# Altium schematic symbol library PM_Drive_UI.SCHLIB: 24 symbols
Pins are listed as number, name and electrical type; pins without a type are passive.

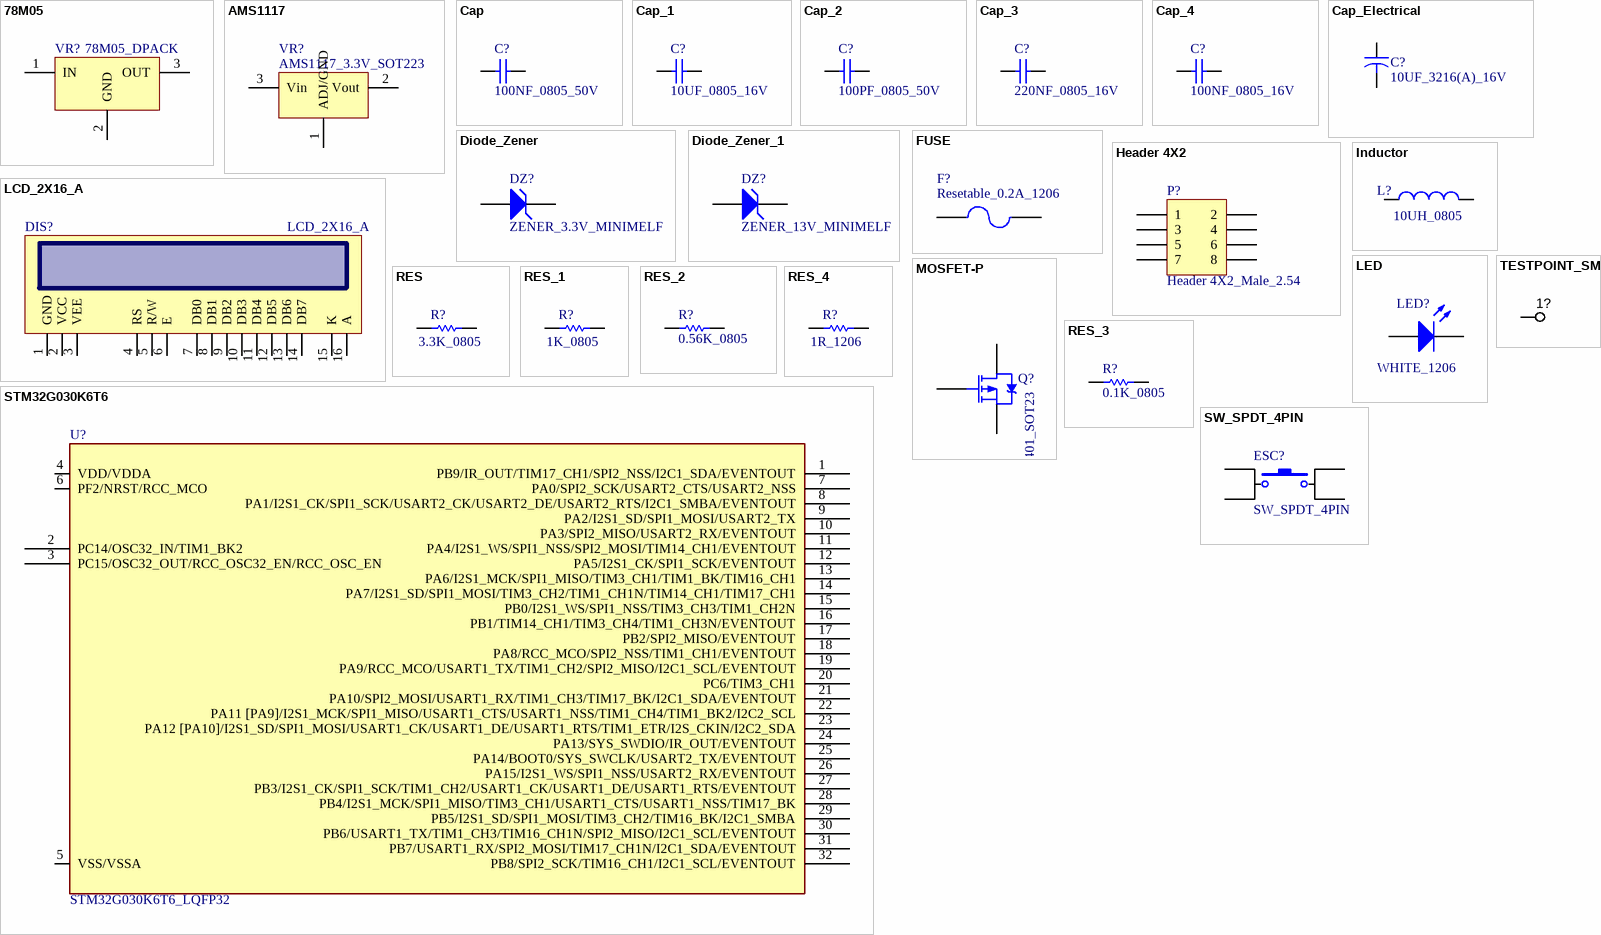
[diagram p0: symbols 78M05 to TESTPOINT_SMD]

## 78M05
designator VR?, comment 78M05_DPACK
footprint DPAK
pins: 1 IN, 2 GND, 3 OUT

## AMS1117
designator VR?, comment AMS1117_3.3V_SOT223
footprint SOT223
pins: 1 ADJ/GND, 2 Vout, 3 Vin

## Cap
designator C?, comment 100NF_0805_50V
Value: 100nF; Component ID: 000401
footprint Cap_0805_Nominal_BIG MARK
footprint Cap_805
footprint Cap_0805_Nominal
footprint Cap_0603_Nominal
pins: 1, 2

## Cap_1
designator C?, comment 10UF_0805_16V
Value: 100nF; Component ID: 000401
footprint Cap_0805_Nominal_BIG MARK
footprint Cap_805
footprint Cap_0805_Nominal
footprint Cap_0603_Nominal
pins: 1, 2

## Cap_2
designator C?, comment 100PF_0805_50V
Value: 100nF; Component ID: 000401
footprint Cap_0805_Nominal_BIG MARK
footprint Cap_805
footprint Cap_0805_Nominal
footprint Cap_0603_Nominal
pins: 1, 2

## Cap_3
designator C?, comment 220NF_0805_16V
Value: 100nF; Component ID: 000401
footprint Cap_0805_Nominal_BIG MARK
footprint Cap_805
footprint Cap_0805_Nominal
footprint Cap_0603_Nominal
pins: 1, 2

## Cap_4
designator C?, comment 100NF_0805_16V
Value: 100nF; Component ID: 000401
footprint Cap_0805_Nominal_BIG MARK
footprint Cap_805
footprint Cap_0805_Nominal
footprint Cap_0603_Nominal
pins: 1, 2

## Cap_Electrical
designator C?, comment 10UF_3216(A)_16V
value: 100UF_25V_5*5.8
footprint CAP_SMD_B
footprint CAP_SMD_D
footprint CAP_SMD_E
footprint Cap_SMD_G
footprint Cap_Tantal(6032)_C
footprint Cap_Tantal(7343)_D
footprint Cap_5mm
footprint Cap_6.3mm
footprint Cap_8mm
footprint Cap_10mm
footprint Cap_12.5mm
footprint Cap_16mm
footprint Cap_18mm
footprint Cap_13mm
footprint Cap_Tantal(3216)_A
footprint CAP_EL_SMD_5 (Electrolytic Cap, D: 5.0mm, L: 5.8mm, Size C)
footprint CAP_EL_SMD_6X8 (Electrolytic Cap, D: 6.3mm L: 7.7mm, Size D)
footprint CAP_EL_SMD_8 (Electrolytic Cap, Size E, Size F, 8.3X10)
footprint CAP_EL_SMD_10X10 (Electrolytic Cap, 10.3mm, L: 10mm)
footprint Cap_Tantal(3216)_A
footprint Cap_Tantal(6032)_C
pins: 1, 2

## Diode_Zener
designator DZ?, comment ZENER_3.3V_MINIMELF
footprint Diode_ZENER_MINIMELF
footprint Diode_SOD323
pins: 1 A, 2 K

## Diode_Zener_1
designator DZ?, comment ZENER_13V_MINIMELF
footprint Diode_ZENER_MINIMELF
footprint Diode_SOD323
pins: 1 A, 2 K

## FUSE
designator F?, comment Resetable_0.2A_1206
footprint FUSE_1206
footprint FUSE_HOLDER_2_20x5mm
footprint FUSE_HOLDER_3_20x5mm
footprint FUSE_HOLDER_4_20x5mm
footprint 0154Series_LTF
pins: 1, 2

## Header 4X2
designator P?, comment Header 4X2_Male_2.54
Header, 6-Pin, Dual row; LatestRevisionDate: 17-Jul-2002; LatestRevisionNote: Re-released for DXP Platform.; Publisher: Altium Limited
footprint HDR_M_2X4_2.54MM (Male Header 2X04 with 2.54 mm Pitch)
pins: 1, 2, 3, 4, 5, 6, 7, 8

## Inductor
designator L?, comment 10UH_0805
Component ID: 003143
footprint 1206
footprint Inductor_805
footprint INDUCTOR_1206_NOMINAL
footprint INDUCTOR_0805_Nominal
pins: 1, 2

## LCD_2X16_A
designator DIS?
footprint Con_LCD
footprint LCD_2X16_A
footprint LCD_2X16_A2
pins: 1 GND, 2 VCC, 3 VEE, 4 RS, 5 R/W, 6 E, 7 DB0, 8 DB1, 9 DB2, 10 DB3, 11 DB4, 12 DB5, 13 DB6, 14 DB7, 15 K, 16 A

## LED
designator LED?, comment WHITE_1206
Component ID: 000517
footprint LED_3mm
footprint LED_3mm_2
footprint LED_5MM
footprint LED_0805
footprint LED_0603_NOMINAL_BLUE
footprint LED_0603_NOMINAL_GREEN
footprint LED_0603_NOMINAL_RED
footprint LED_0603_NOMINAL_YELLOW
footprint LED_1206_NOMINAL
footprint LED_1206_NOMINAL_BIG MARK
footprint LED_0805_NOMINAL
pins: 1 A, 2 K

## MOSFET-P
designator Q?, comment AO3401_SOT23
P-Channel MOSFET; Published: 8-Jun-2000; LatestRevisionDate: 17-Jul-2002; LatestRevisionNote: Re-released for DXP Platform.; PackageVersion: 1995/1996; PackageReference: E3; Publisher: Altium Limited; PackageDescription: TO, Flat Index; 3 In-Line, Axial Leads; Body Dia. 4.6mm; Lead Dia. 0.5 mm (max)
footprint SOT23_MOSFET
pins: 1 G, 2 S, 3 D

## RES
designator R?, comment 3.3K_0805
Value: 10K_0603; Component ID: 000091
footprint RES_1/4W_BIG
footprint RES_1/4W_SMALL
footprint Res_Stood
footprint 0603_amir
footprint 0805
footprint 1206
footprint RES_1W_SMALL
footprint 1210
footprint 0603_Nominal
footprint 2512
footprint Res_0603_Nominal
footprint Res_1206_BIG SIZE
footprint Res_0805_BIG SIZE
footprint Res_0805_Nominal
pins: 1, 2

## RES_1
designator R?, comment 1K_0805
Value: 10K_0603; Component ID: 000091
footprint RES_1/4W_BIG
footprint RES_1/4W_SMALL
footprint Res_Stood
footprint 0603_amir
footprint 0805
footprint 1206
footprint RES_1W_SMALL
footprint 1210
footprint 0603_Nominal
footprint 2512
footprint Res_0603_Nominal
footprint Res_1206_BIG SIZE
footprint Res_0805_Nominal
pins: 1, 2

## RES_2
designator R?, comment 0.56K_0805
Value: 10K_0603; Component ID: 000091
footprint RES_1/4W_BIG
footprint RES_1/4W_SMALL
footprint Res_Stood
footprint 0603_amir
footprint 0805
footprint 1206
footprint RES_1W_SMALL
footprint 1210
footprint 0603_Nominal
footprint 2512
footprint Res_0603_Nominal
footprint Res_1206_BIG SIZE
footprint Res_0805_BIG SIZE
footprint Res_0805_Nominal
pins: 1, 2

## RES_3
designator R?, comment 0.1K_0805
Value: 10K_0603; Component ID: 000091
footprint RES_1/4W_BIG
footprint RES_1/4W_SMALL
footprint Res_Stood
footprint 0603_amir
footprint 0805
footprint 1206
footprint RES_1W_SMALL
footprint 1210
footprint 0603_Nominal
footprint 2512
footprint Res_0603_Nominal
footprint Res_1206_BIG SIZE
footprint Res_0805_BIG SIZE
footprint Res_0805_Nominal
pins: 1, 2

## RES_4
designator R?, comment 1R_1206
Value: 10K_0603; Component ID: 000091
footprint RES_1/4W_BIG
footprint RES_1/4W_SMALL
footprint Res_Stood
footprint 0603_amir
footprint 0805
footprint 1206
footprint RES_1W_SMALL
footprint 1210
footprint 0603_Nominal
footprint 2512
footprint Res_0603_Nominal
footprint Res_1206_BIG SIZE
pins: 1, 2

## STM32G030K6T6
designator U?, comment STM32G030K6T6_LQFP32
MCU, STM32, Arm® Cortex®-M0+ 32-bit MCU, 32KB FLASH, 8KB SRAM, 64 MHz CPU, 2x USART, timers, ADC, comm. I/Fs, 2.0-3.6V; DESC: 64MHz, I2C, SPI, USART; MANF: ST; PARAM2: 2~3.6VCC, 64MHz, 12Bit ADC; PARAM: 32KB FLASH,8KB SRAM, -40~85°C; MANF_P#: STM32G030K6T6; PRICE: 1$; VALUE: STM32G030K6T6
footprint QFG80_32 (TQFP32, A32 (Cypress), GP32 (Zarlink), MS-026ABA(JEDEC), 7X7mm, 0.8mm)
pins: 1 PB9/IR_OUT/TIM17_CH1/SPI2_NSS/I2C1_SDA/EVENTOUT, 2 PC14/OSC32_IN/TIM1_BK2, 3 PC15/OSC32_OUT/RCC_OSC32_EN/RCC_OSC_EN, 4 VDD/VDDA, 5 VSS/VSSA, 6 PF2/NRST/RCC_MCO, 7 PA0/SPI2_SCK/USART2_CTS/USART2_NSS, 8 PA1/I2S1_CK/SPI1_SCK/USART2_CK/USART2_DE/USART2_RTS/I2C1_SMBA/EVENTOUT, 9 PA2/I2S1_SD/SPI1_MOSI/USART2_TX, 10 PA3/SPI2_MISO/USART2_RX/EVENTOUT, 11 PA4/I2S1_WS/SPI1_NSS/SPI2_MOSI/TIM14_CH1/EVENTOUT, 12 PA5/I2S1_CK/SPI1_SCK/EVENTOUT, 13 PA6/I2S1_MCK/SPI1_MISO/TIM3_CH1/TIM1_BK/TIM16_CH1, 14 PA7/I2S1_SD/SPI1_MOSI/TIM3_CH2/TIM1_CH1N/TIM14_CH1/TIM17_CH1, 15 PB0/I2S1_WS/SPI1_NSS/TIM3_CH3/TIM1_CH2N, 16 PB1/TIM14_CH1/TIM3_CH4/TIM1_CH3N/EVENTOUT, 17 PB2/SPI2_MISO/EVENTOUT, 18 PA8/RCC_MCO/SPI2_NSS/TIM1_CH1/EVENTOUT, 19 PA9/RCC_MCO/USART1_TX/TIM1_CH2/SPI2_MISO/I2C1_SCL/EVENTOUT, 20 PC6/TIM3_CH1, 21 PA10/SPI2_MOSI/USART1_RX/TIM1_CH3/TIM17_BK/I2C1_SDA/EVENTOUT, 22 PA11 [PA9]/I2S1_MCK/SPI1_MISO/USART1_CTS/USART1_NSS/TIM1_CH4/TIM1_BK2/I2C2_SCL, 23 PA12 [PA10]/I2S1_SD/SPI1_MOSI/USART1_CK/USART1_DE/USART1_RTS/TIM1_ETR/I2S_CKIN/I2C2_SDA, 24 PA13/SYS_SWDIO/IR_OUT/EVENTOUT, 25 PA14/BOOT0/SYS_SWCLK/USART2_TX/EVENTOUT, 26 PA15/I2S1_WS/SPI1_NSS/USART2_RX/EVENTOUT, 27 PB3/I2S1_CK/SPI1_SCK/TIM1_CH2/USART1_CK/USART1_DE/USART1_RTS/EVENTOUT, 28 PB4/I2S1_MCK/SPI1_MISO/TIM3_CH1/USART1_CTS/USART1_NSS/TIM17_BK, 29 PB5/I2S1_SD/SPI1_MOSI/TIM3_CH2/TIM16_BK/I2C1_SMBA, 30 PB6/USART1_TX/TIM1_CH3/TIM16_CH1N/SPI2_MISO/I2C1_SCL/EVENTOUT, 31 PB7/USART1_RX/SPI2_MOSI/TIM17_CH1N/I2C1_SDA/EVENTOUT, 32 PB8/SPI2_SCK/TIM16_CH1/I2C1_SCL/EVENTOUT

## SW_SPDT_4PIN
designator ESC?
footprint SWITCH_DIP_6*6
footprint SWPBS_SPDT_6X6X5 (SWITCH, PUSHBUTTON, SMD, SPDT, 6X6mm 4PIN)
footprint SWPBS_SPDT_6X6X13.5 (SWITCH, PUSHBUTTON, SMD, SPDT, 6X6mm 4PIN)
footprint SWPBS-DIP_6*6*13.5
footprint SWPBS-DIP_6X6X13.5
pins: 1, 2, 3, 4

## TESTPOINT_SMD
designator 1?  (net tie, no BOM)
TEST POINT; MANF: MANF; MANF_P#: MANF_P#; VALUE: VALUE
footprint TPSMD_D1 (Test Point, SMD Pad, Circle, 1mm X 1mm)
pins: 1